# EAGLE library part 22X1 (library Boards)
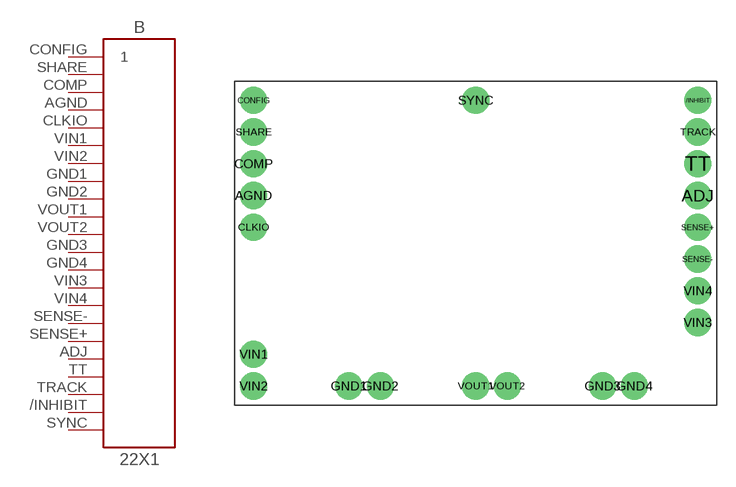
[diagram p5: symbol with the pads of PTH08T250; footprint PTH08T250]

Designator prefix B

## 22X1PTH08T250  [PTH08T250]
/INHIBIT  21
ADJ  18
AGND  4
CLKIO  5
COMP  3
CONFIG  1
GND1  8
GND2  9
GND3  12
GND4  13
SENSE+  17
SENSE-  16
SHARE  2
SYNC  22
TRACK  20
TT  19
VIN1  6
VIN2  7
VIN3  14
VIN4  15
VOUT1  10
VOUT2  11

## Footprint PTH08T250 (pad centres in mm)
drill 1 pad 2.184: /INHIBIT 17.78,11.43; ADJ 17.78,3.81; AGND -17.78,3.81; CLKIO -17.78,1.27; COMP -17.78,6.35; CONFIG -17.78,11.43; GND1 -10.16,-11.43; GND2 -7.62,-11.43; GND3 10.16,-11.43; GND4 12.7,-11.43; SENSE+ 17.78,1.27; SENSE- 17.78,-1.27; SHARE -17.78,8.89; SYNC 0,11.43; TRACK 17.78,8.89; TT 17.78,6.35; VIN1 -17.78,-8.89; VIN2 -17.78,-11.43; VIN3 17.78,-6.35; VIN4 17.78,-3.81; VOUT1 0,-11.43; VOUT2 2.54,-11.43